# Altium footprint library PcbLib1_of_zj.PcbLib: 39 footprints (part 2 of 3)
Each footprint in its own frame and in the unit in brackets; x right, y up, seen from the top. Pads: shape width x height; smd on the part's side, far side on the other; paste and mask are expansions set on the pad; w line width, h text height; cw(c..) or ccw(c..) is an arc to the next point about the centre after c.
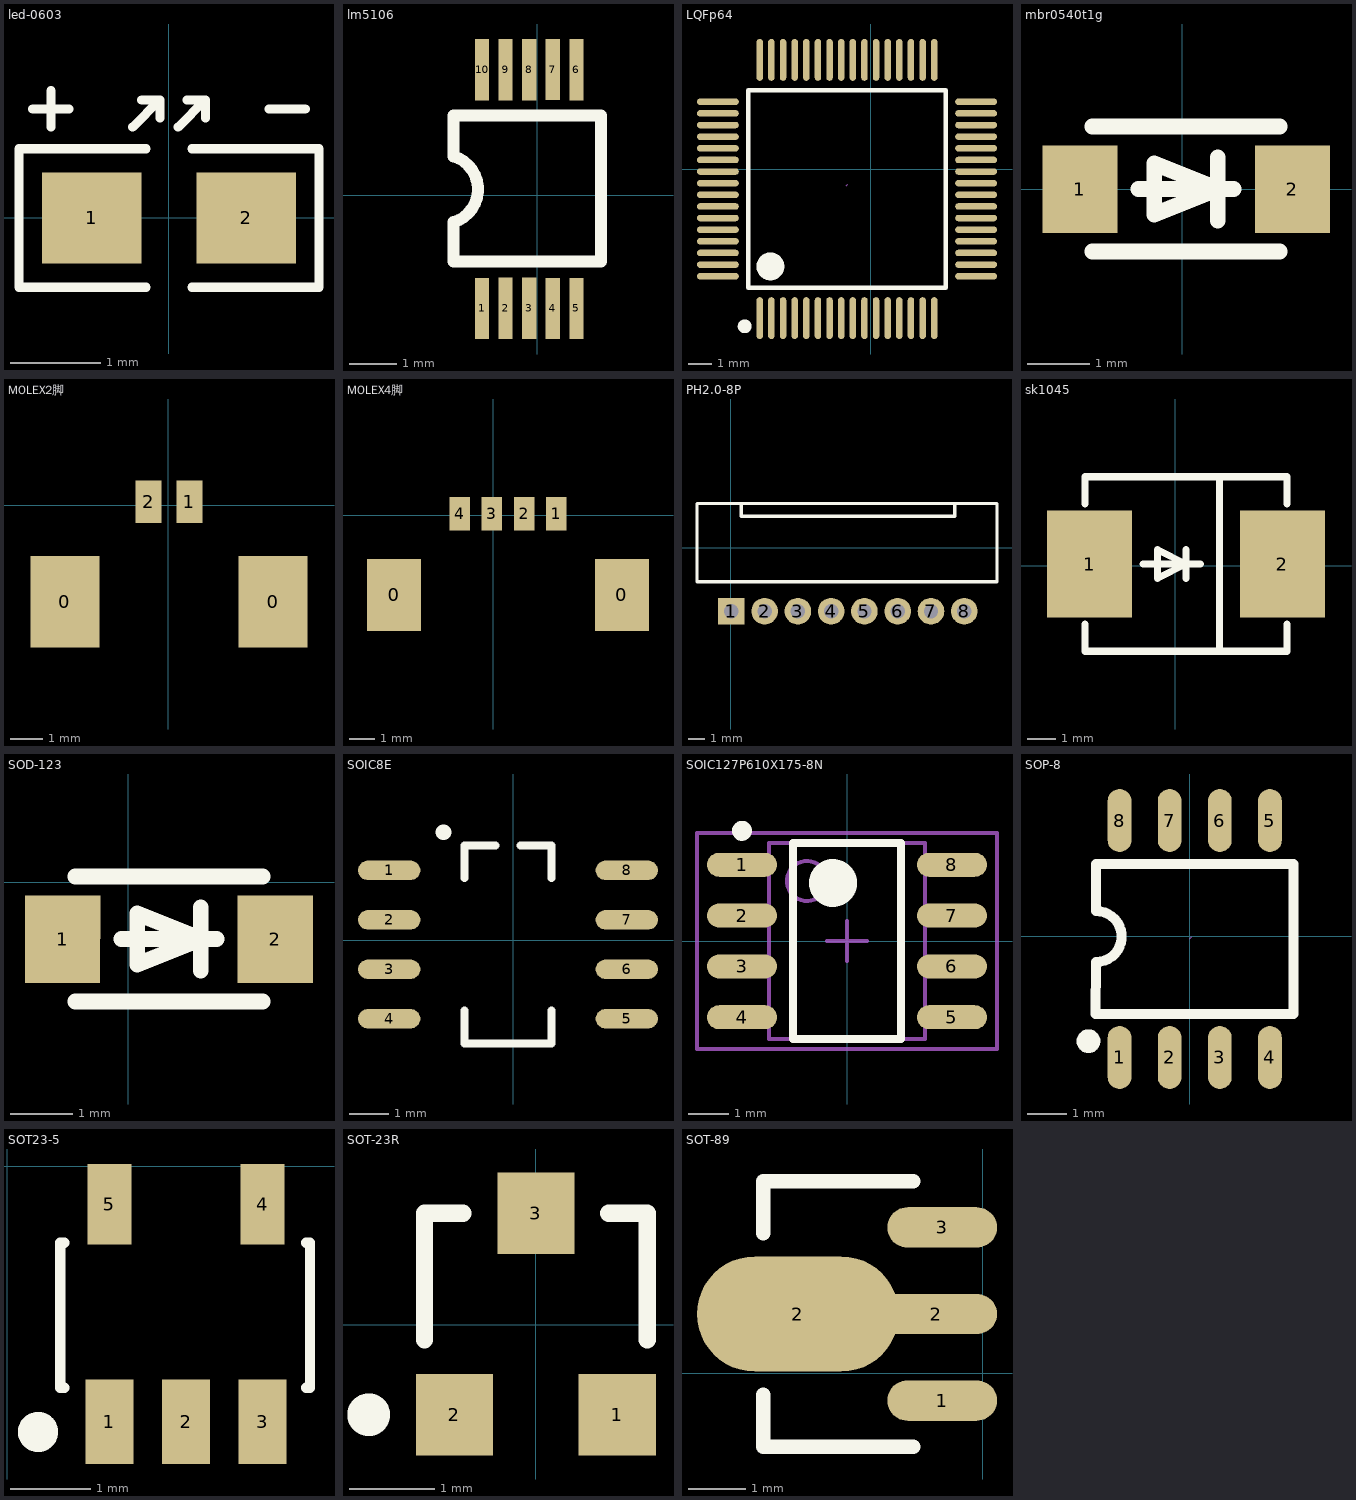
[diagram p1: the footprints below, top view; thin cyan lines are the x and y axes]

## led-0603 [mm]
pads (2):
  rect 1.1x1 smd: 1(-0.85,0) 2(0.85,0)
Top Overlay:
  lines w0.1: -1.5,1.2 -1.1,1.2 ; -1.3,1 -1.3,1.4 ; -0.4,1 -0.1,1.3 ; -0.3,1.3 -0.1,1.3 ; -0.254,-0.762 -1.651,-0.762 -1.651,0.762 -0.254,0.762 ; -0.1,1.1 -0.1,1.3 ; 0.1,1 0.4,1.3 ; 0.2,1.3 0.4,1.3 ; 0.254,-0.762 1.651,-0.762 1.651,0.762 0.254,0.762 ; 0.4,1.1 0.4,1.3 ; 1.1,1.2 1.5,1.2
3D body: height 1, standoff 0, extent -1.143,-0.381 1.143,0.381

## lm5106 [mm]
pads (10):
  rect 0.3x1.3 smd: 1(-1.175,-2.398) 2(-0.675,-2.398) 3(-0.175,-2.398) 4(0.325,-2.398) 5(0.825,-2.398) 6(0.825,2.668) 7(0.325,2.669) 8(-0.175,2.669) 9(-0.675,2.668) 10(-1.175,2.668)
Top Overlay:
  lines w0.254: -1.778,-1.407 -1.778,-0.568 ccw(c-1.995,0.13) -1.778,0.829 ; -1.778,0.854 -1.778,1.692 ; -1.754,-1.407 1.346,-1.407 ; -1.754,1.692 1.346,1.692 1.346,-1.408
3D body "User Library-DGS0010A.STEP": height 1.1, standoff 0, extent -1.7,-2.462 1.3,2.463

## LQFp64 [mm]
pads (64):
  oval 0.28x1.796 smd: 1(-4.769,-6.406) 2(-4.269,-6.406) 3(-3.769,-6.406) 4(-3.269,-6.406) 5(-2.769,-6.406) 6(-2.269,-6.406) 7(-1.769,-6.406) 8(-1.269,-6.406) 9(-0.769,-6.406) 10(-0.269,-6.406) 11(0.231,-6.406) 12(0.731,-6.406) 13(1.231,-6.406) 14(1.731,-6.406) 15(2.231,-6.406) 16(2.731,-6.406) 33(2.731,4.694) 34(2.231,4.694) 35(1.731,4.694) 36(1.231,4.694) 37(0.731,4.694) 38(0.231,4.694) 39(-0.269,4.694) 40(-0.769,4.694) 41(-1.269,4.694) 42(-1.769,4.694) 43(-2.269,4.694) 44(-2.769,4.694) 45(-3.269,4.694) 46(-3.769,4.694) 47(-4.269,4.694) 48(-4.769,4.694)
  oval 1.796x0.28 smd: 17(4.531,-4.606) 18(4.531,-4.106) 19(4.531,-3.606) 20(4.531,-3.106) 21(4.531,-2.606) 22(4.531,-2.106) 23(4.531,-1.606) 24(4.531,-1.106) 25(4.531,-0.606) 26(4.531,-0.106) 27(4.531,0.394) 28(4.531,0.894) 29(4.531,1.394) 30(4.531,1.894) 31(4.531,2.394) 32(4.531,2.894) 49(-6.569,2.894) 50(-6.569,2.394) 51(-6.569,1.894) 52(-6.569,1.394) 53(-6.569,0.894) 54(-6.569,0.394) 55(-6.569,-0.106) 56(-6.569,-0.606) 57(-6.569,-1.106) 58(-6.569,-1.606) 59(-6.569,-2.106) 60(-6.569,-2.606) 61(-6.569,-3.106) 62(-6.569,-3.606) 63(-6.569,-4.106) 64(-6.569,-4.606)
Top Overlay:
  lines w0.2: -5.269,-5.106 3.231,-5.106 3.231,3.394 -5.269,3.394 -5.269,-5.106
  lines w0.3: -5.419,-6.607 ccw(c-5.417,-6.757) -5.416,-6.607
  lines w0.6: -4.319,-3.881 ccw(c-4.316,-4.181) -4.314,-3.881
Mechanical 15:
  lines w0.003: -1.045,-0.708 -0.994,-0.657
3D body "User Library-lqfp64.STEP": height 1.63, standoff 0, extent -7.044,-6.972 5.1,5.172

## mbr0540t1g [mm]
pads (2):
  rect 1.2x1.4 smd: 1(-1.641,0.002) 2(1.759,0.002)
Top Overlay:
  lines w0.254: -1.441,-0.998 1.559,-0.998 ; -1.441,1.002 1.559,1.002 ; -0.703,0.002 0.821,0.002 ; 0.567,-0.506 0.567,0.51 ; -0.449,-0.404 -0.449,0.408 0.567,0.002 -0.449,-0.404
Mechanical 15:
  lines w0.003: 0.034,0.207 0.084,0.258
3D body "CircuitWorks-SOD123.STEP": height 1.27, standoff 0, extent -1.75,-0.8 1.95,0.8

## MOLEX2脚 [mil]
pads (4):
  rect 82.68x110.24 smd paste+0 mask+4: 0(-124.33,-115.68) 0(125.67,-115.68)
  rect 31.5x51.18 smd paste+0 mask+4: 1(25.28,4.4) 2(-23.94,4.4)

## MOLEX4脚 [mil]
pads (6):
  rect 82.68x110.24 smd paste+0 mask+4: 0(-151.57,-121.65) 0(196.85,-121.65)
  rect 31.5x51.18 smd paste+0 mask+4: 1(96.46,2.37) 2(47.25,2.37) 3(-1.97,2.37) 4(-51.18,2.37)

## PCBComponent_1 [mm]

## PH2.0-8P [mm]
height 10
pads (8):
  rect 1.6x1.6 hole 0.86: 1(0.033,-3.81)
  round 1.6 hole 0.86: 2(2.033,-3.81) 3(4.033,-3.81) 4(6.033,-3.81) 5(8.033,-3.81) 6(10.033,-3.81) 7(12.033,-3.81) 8(14.033,-3.81)
Top Overlay:
  lines w0.2: 0.635,2.667 0.635,1.905 13.462,1.905 13.462,2.667 ; -2.032,-2.032 -2.032,2.667 16.002,2.667 16.002,-2.032 -2.032,-2.032

## sk1045 [mm]
pads (2):
  rect 3.03x3.82 smd: 1(-3.057,0.062) 2(3.813,0.062)
Top Overlay:
  lines w0.254: -3.222,-2.079 -3.222,-3.048 3.978,-3.048 3.978,-2.079 ; -3.222,2.203 -3.222,3.172 3.978,3.172 3.978,2.203 ; -1.146,0.062 0.886,0.062 ; 0.378,-0.446 0.378,0.57 0.378,0.062 ; 1.57,-3.048 1.57,3.172 ; 0.378,0.062 -0.638,-0.446 -0.638,0.57 0.378,0.062
Mechanical 15:
  lines w0.003: 0.353,0.355 0.403,0.406
3D body "User Library-Diode Molded Body.STEP": height 2.28, standoff -0.03, extent -2,-0.95 3,1.75

## SOD-123 [mm] "MMSZ5246B"
pads (2):
  rect 1.2x1.4 smd: 1(-1.051,-0.905) 2(2.349,-0.905)
Top Overlay:
  lines w0.254: -0.851,-1.905 2.149,-1.905 ; -0.851,0.095 2.149,0.095 ; -0.113,-0.905 1.411,-0.905 ; 1.157,-1.413 1.157,-0.397 ; 0.141,-1.311 0.141,-0.499 1.157,-0.905 0.141,-1.311
Mechanical 15:
  lines w0.003: 0.624,-0.7 0.674,-0.649
3D body "CircuitWorks-SOD123.STEP": height 1.27, standoff 0, extent -1.25,-1.6 2.45,0

## SOIC8E [mm]
pads (8):
  oval 1.6x0.5 smd paste+0 mask+0.102: 1(-3.191,1.796) 2(-3.191,0.526) 3(-3.191,-0.744) 4(-3.191,-2.014) 5(2.909,-2.014) 6(2.909,-0.744) 7(2.909,0.526) 8(2.909,1.796)
Top Overlay:
  lines w0.2: -1.256,-1.804 -1.256,-2.649 0.974,-2.649 0.974,-1.804 ; -1.256,1.596 -1.256,2.431 -0.458,2.431 ; 0.177,2.431 0.974,2.431 0.974,1.596
  lines w0.4: -1.795,2.778 cw(c-1.97,2.68) -1.794,2.775

## SOIC127P610X175-8N [mm]
pads (8):
  oval 1.75x0.6 smd: 1(-2.625,1.905) 2(-2.625,0.635) 3(-2.625,-0.635) 4(-2.625,-1.905) 5(2.625,-1.905) 6(2.625,-0.635) 7(2.625,0.635) 8(2.625,1.905)
Top Overlay:
  circle w0.6: c-0.35,1.45 r0.3
  circle w0.25: c-2.625,2.755 r0.125
  lines w0.2: -1.35,-2.45 1.35,-2.45 1.35,2.45 -1.35,2.45 -1.35,-2.45
Mechanical 13:
  circle w0.1: c-1,1.5 r0.5
  lines w0.1: -1.95,-2.45 1.95,-2.45 1.95,2.45 -1.95,2.45 -1.95,-2.45
Mechanical 15:
  lines w0.1: -0.5,0 0.5,0 ; 0,-0.5 0,0.5 ; -3.75,-2.7 3.75,-2.7 3.75,2.7 -3.75,2.7 -3.75,-2.7
3D body: height 1, standoff 0.1, extent -1.95,-2.45 1.95,2.45

## SOP-8 [mm] "lm358"
pads (8):
  oval 0.6x1.598 smd: 1(-1.784,-3.065) 2(-0.514,-3.065) 3(0.756,-3.065) 4(2.026,-3.065) 5(2.026,2.935) 6(0.756,2.935) 7(-0.514,2.935) 8(-1.784,2.935)
Top Overlay:
  lines w0.254: -2.393,-1.97 -2.379,-0.649 ccw(c-2.379,-0.002) -2.379,0.646 -2.379,1.835 2.621,1.835 2.621,-1.965 -2.379,-1.965
  lines w0.3: -2.571,-2.503 ccw(c-2.57,-2.653) -2.569,-2.503
Mechanical 15:
  lines w0.003: -0.011,-0.053 0.039,-0.002
3D body "User Library-sop8_model.STEP": height 1.55, standoff -0.01, extent -2.389,-3.016 2.511,2.964

## SOT23-5 [mm]
pads (5):
  rect 0.6x1.05 smd: 1(1.27,-3.175) 2(2.22,-3.175) 3(3.17,-3.175)
  rect 0.55x1 smd: 4(3.17,-0.475) 5(1.27,-0.475)
Top Overlay:
  circle w0.25: c0.383,-3.302 r0.125
  lines w0.127: 0.71,-2.754 0.66,-2.754 0.66,-0.954 0.71,-0.954 ; 3.71,-2.754 3.76,-2.754 3.76,-0.954 3.71,-0.954
3D body "User Library-SOT23-5.STEP": height 1.09, standoff -0.01, extent 0.784,-3.178 3.683,-0.378

## SOT-23R [mm]
pads (3):
  rect 0.9x0.95 smd: 1(0.95,-1.048) 2(-0.95,-1.048) 3(0,1.302)
Top Overlay:
  circle w0.25: c-1.95,-1.048 r0.125
  lines w0.2: -1.3,-0.173 -1.3,1.302 -0.85,1.302 ; 0.85,1.302 1.3,1.302 1.3,-0.173

## SOT-89 [mm] "78L05"
pads (4):
  oval 1.9x0.7 smd: 1(-0.704,-0.471) 3(-0.704,2.531)
  oval 3.5x2 smd: 2(-3.203,1.03)
  oval 2.1x0.7 smd: 2(-0.803,1.03)
Top Overlay:
  lines w0.254: -3.804,-0.37 -3.804,-1.27 -1.204,-1.27 ; -3.804,2.43 -3.804,3.33 -1.204,3.33
Mechanical 15:
  lines w0.003: -2.378,1.156 -2.327,1.207